# Altium footprint library 电阻.PCBLIB: 39 footprints (part 2 of 3)
Each footprint in its own frame and in the unit in brackets; x right, y up, seen from the top. Pads: shape width x height; smd on the part's side, far side on the other; paste and mask are expansions set on the pad; w line width, h text height; cw(c..) or ccw(c..) is an arc to the next point about the centre after c.
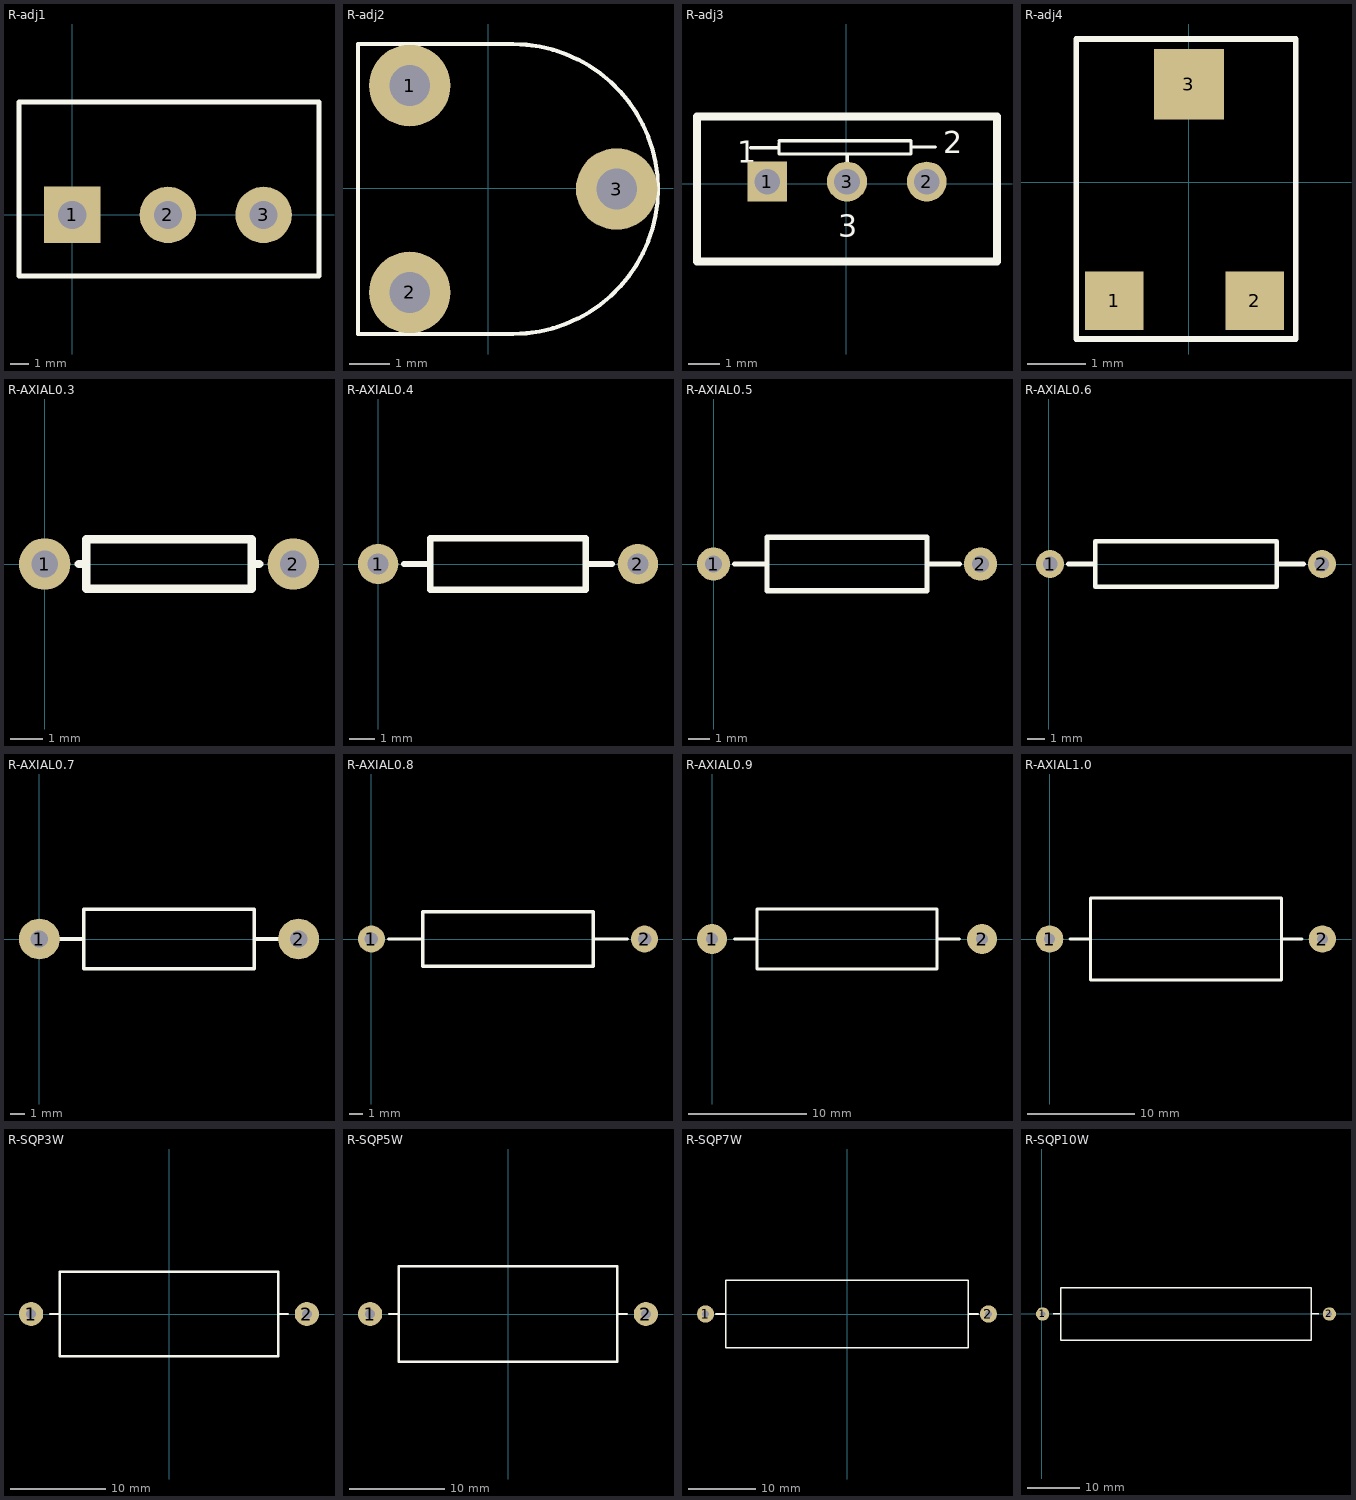
[diagram p1: the footprints below, top view; thin cyan lines are the x and y axes]

## R-adj1 [mm]
pads (3):
  rect 3x3 hole 1.5: 1(0,0)
  round 3 hole 1.5: 2(5.08,0) 3(10.16,0)
TopOverlay:
  lines w0.254: -2.825,-3.25 13.1,-3.25 13.1,6 -2.825,6 -2.825,-3.25

## R-adj2 [mm]
pads (3):
  round 2 hole 1: 1(-1.925,2.525) 2(-1.925,-2.555) 3(3.155,-0.015)
TopOverlay:
  lines w0.102: -3.195,-3.571 0.615,-3.571 ccw(c0.615,-0.015) 0.615,3.541 -3.195,3.541 -3.195,-3.571

## R-adj3 [mm]
pads (3):
  rect 1.27x1.27 hole 0.813: 1(-2.515,0.075)
  round 1.27 hole 0.813: 2(2.565,0.075) 3(0.025,0.075)
TopOverlay:
  lines w0.1: -3.04,1.15 -2.165,1.15 ; -2.14,1.3 -2.14,0.95 2.06,0.95 2.06,1.375 ; -2.14,1.375 2.06,1.375 ; 0.035,0.45 0.035,0.9 ; 2.135,1.175 2.835,1.175 ; 2.06,1.375 2.06,1.375
  lines w0.254: -4.75,-2.475 4.8,-2.475 4.8,2.15 -4.75,2.15 -4.75,-2.475
  text "1" at -3.465,0.675 h0.7
  text "2" at 3.085,0.975 h0.7
  text "3" at -0.25,-1.675 h0.7

## R-adj4 [mm]
pads (3):
  rect 1x1 smd: 1(-1.275,-2.025) 2(1.125,-2.025)
  rect 1.2x1.2 smd: 3(0,1.675)
TopOverlay:
  lines w0.1: -1.925,-2.675 -1.925,2.45 1.825,2.45 1.825,-2.675 -1.925,-2.675

## R-AXIAL0.3 [mil]
pads (2):
  round 62 hole 32: 1(0,0) 2(300,0)
TopOverlay:
  lines w10: 41,0 50,0 ; 259,0 250,0 ; 250,0 250,-30 50,-30 50,30 250,30 250,0

## R-AXIAL0.4 [mil]
pads (2):
  round 62 hole 32: 1(0,0) 2(400,0)
TopOverlay:
  lines w10: 40,0 80,0 ; 320,0 360,0 ; 80,-40 320,-40 320,40 80,40 80,-40

## R-AXIAL0.5 [mil]
pads (2):
  round 62 hole 32: 1(0,0) 2(500,0)
TopOverlay:
  lines w10: 40,0 100,0 ; 400,0 460,0 ; 100,-50 100,50 400,50 400,-50 100,-50

## R-AXIAL0.6 [mil]
pads (2):
  round 62 hole 32: 1(2.5,0) 2(602.5,0)
TopOverlay:
  lines w10: 42.5,0 102.5,0 ; 502.5,0 562.5,0 ; 102.5,-50 502.5,-50 502.5,50 102.5,50 102.5,-50

## R-AXIAL0.7 [mm]
pads (2):
  round 2.8 hole 1.2: 1(0,0) 2(17.78,0)
TopOverlay:
  lines w0.254: 1.27,0 3.048,0 ; 14.732,0 16.51,0 ; 3.048,-2.032 14.732,-2.032 14.732,2.032 3.048,2.032 3.048,-2.032

## R-AXIAL0.8 [mm]
pads (2):
  round 2 hole 1: 1(0,0) 2(20.32,0)
TopOverlay:
  lines w0.254: 1.27,0 3.81,0 ; 16.51,0 19.05,0 ; 3.81,-2.032 16.51,-2.032 16.51,2.032 3.81,2.032 3.81,-2.032

## R-AXIAL0.9 [mil]
pads (2):
  round 100 hole 40: 1(0,0) 2(900,0)
TopOverlay:
  lines w10: 75,0 150,0 ; 750,0 825,0 ; 150,-100 750,-100 750,100 150,100 150,-100

## R-AXIAL1.0 [mil]
pads (2):
  round 100 hole 40: 1(0,0) 2(1000,0)
TopOverlay:
  lines w10: 75,0 150,0 ; 850,0 925,0 ; 150,-150 850,-150 850,150 150,150 150,-150

## R-SQP3W [mm]
pads (2):
  round 2.54 hole 1.016: 1(-14.5,0) 2(14.5,0)
TopOverlay:
  lines w0.254: -12.5,0 -11.5,0 ; 11.5,0 12.5,0 ; -11.5,-4.445 -11.5,4.445 11.5,4.445 11.5,-4.445 -11.5,-4.445

## R-SQP5W [mm]
pads (2):
  round 2.54 hole 1.016: 1(-14.5,0) 2(14.5,0)
TopOverlay:
  lines w0.254: -12.5,0 -11.5,0 ; 11.5,0 12.5,0 ; -11.5,-5 11.5,-5 11.5,5 -11.5,5 -11.5,-5

## R-SQP7W [mm]
pads (2):
  round 2.54 hole 1.016: 1(-21,0) 2(21,0)
TopOverlay:
  lines w0.254: -19.5,0 -18,0 ; 18,0 19.5,0 ; -18,-5 -18,5 18,5 18,-5 -18,-5

## R-SQP10W [mil]
pads (2):
  round 100 hole 40: 1(4.82,-2.5) 2(2170.18,-2.5)
TopOverlay:
  lines w10: 83.56,-2.5 142.62,-2.5 ; 2032.38,-2.5 2091.44,-2.5 ; 142.62,-199.35 2032.38,-199.35 2032.38,194.35 142.62,194.35 142.62,-199.35